# EAGLE library part AD8133 (library analog-devices)
Triple Differential Driver With Output Pull-Down Source: http://www.analog.com .. 3832984220209AD8133_0.pdf
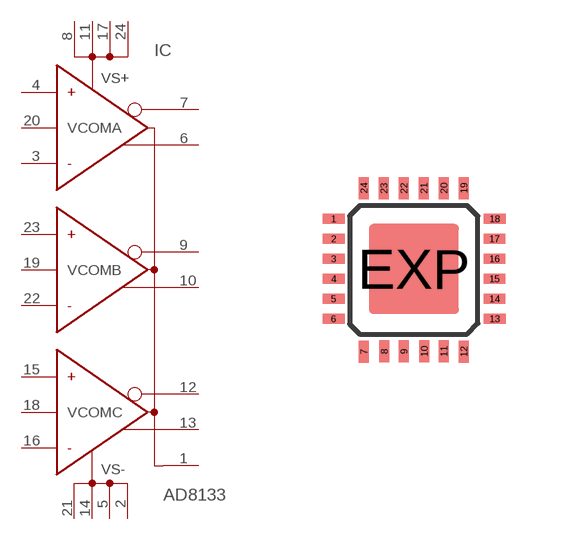
[diagram p23: symbol with the pads of LFCSP24; footprint LFCSP24]

Designator prefix IC

## AD8133  [LFCSP24]
1  OPD  in
2  VS-  pwr
3  -INA  in
4  +INA  in
5  VS-  pwr
6  -OUTA  out
7  +OUTA  out
8  VS+  pwr
9  +OUTB  out
10  -OUTB  out
11  VS+  pwr
12  +OUTC  out
13  -OUTC  out
14  VS-  pwr
15  +INC  in
16  -INC  in
17  VS+  pwr
18  VCOMC  in
19  VCOMB  in
20  VCOMA  in
21  VS-  pwr
22  -INB  in
23  +INB  in
24  VS+  pwr

## Footprint LFCSP24 (pad centres in mm)
24-Lead Lead Frame Chip Scale Package 4 mm × 4 mm (CP-24) Source: www.analog.com .. 3832984220209AD8133_0.pdf
smd 0.55 x 0.25: 1 -2.01,1.25; 2 -2.005,0.75; 3 -2.005,0.25; 4 -2.005,-0.25; 5 -2.005,-0.75; 6 -2.01,-1.25; 13 2.02,-1.25; 14 2.015,-0.75; 15 2.015,-0.25; 16 2.015,0.25; 17 2.015,0.75; 18 2.02,1.25
smd 0.25 x 0.55: 7 -1.25,-2.07; 8 -0.74,-2.065; 9 -0.25,-2.065; 10 0.26,-2.065; 11 0.75,-2.065; 12 1.25,-2.07; 19 1.25,2.02; 20 0.75,2.015; 21 0.25,2.015; 22 -0.25,2.015; 23 -0.75,2.015; 24 -1.25,2.02
smd 2.25 x 2.25: EXP 0,0